# Altium footprint library CAPC1005.PcbLib: 1 footprints
Each footprint in its own frame and in the unit in brackets; x right, y up, seen from the top. Pads: shape width x height; smd on the part's side, far side on the other; paste and mask are expansions set on the pad; w line width, h text height; cw(c..) or ccw(c..) is an arc to the next point about the centre after c.
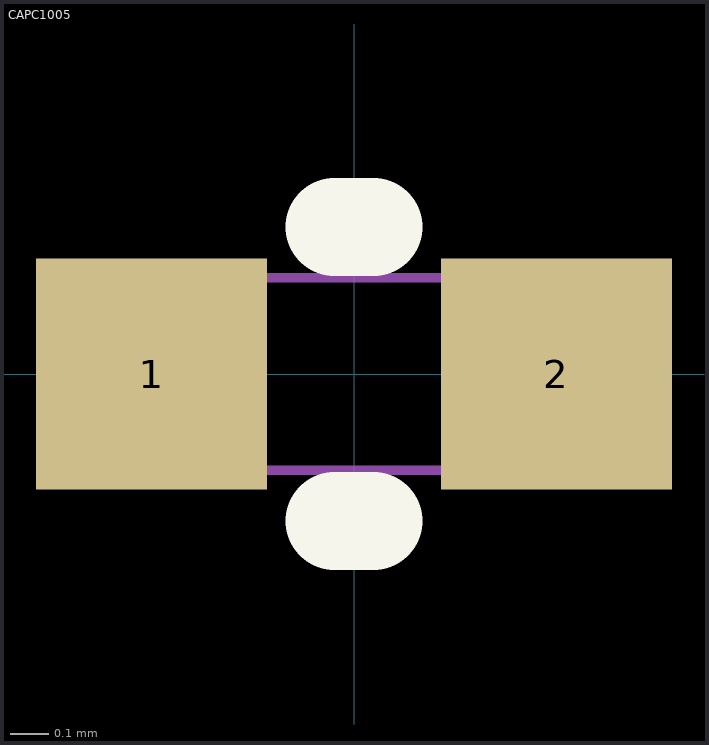
[diagram p0: the footprint, top view; thin cyan lines are the x and y axes]

## CAPC1005 [mm] "Chip Capacitor 1005"
height 0.014
pads (2):
  rect 0.6x0.6 smd: 1(-0.525,0) 2(0.525,0)
Top Overlay:
  lines w0.254: -0.051,-0.381 0.051,-0.381 ; -0.051,0.381 0.051,0.381
Mechanical 7:
  lines w0.025: -0.5,-0.25 0.5,-0.25 0.5,0.25 -0.5,0.25 -0.5,-0.25
  text ".Comment" at -0.475,-0.2 h0.14
  text ".Designator" at -0.475,0.075 h0.14
3D body: height 0.2, standoff 0, extent -0.233,-0.299 0.236,0.301
3D body: height 0.2, standoff 0, extent 0.23,-0.3 0.573,0.3
3D body: height 0.2, standoff 0, extent -0.571,-0.301 -0.228,0.299